# Altium schematic symbol library CONN-STD_MINI_USB_AB.SchLib: 1 symbol
Pins are listed as number, name and electrical type; pins without a type are passive.

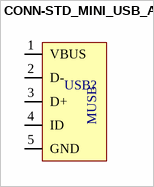
[diagram p0: symbol CONN-STD_MINI_USB_AB]

## CONN-STD_MINI_USB_AB
designator USB?  (value not drawn)
pins: 1 VBUS, 2 D-, 3 D+, 4 ID, 5 GND
text: MUSB